# EAGLE library part B9P-VH (library con-jst)
VH Connector - 0.156"
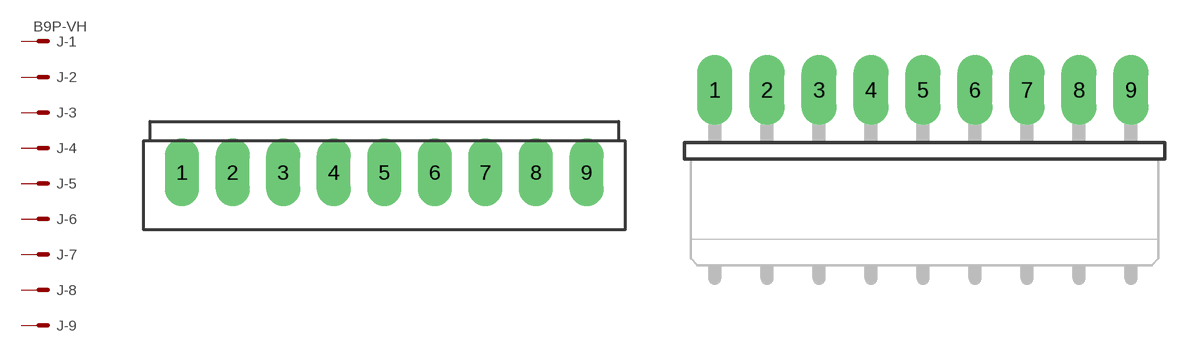
[diagram p44: symbol with the pads of B9P; footprints B9P, B9PS]

Designator prefix J; gates -1=KV -2=K -3=K -4=K -5=K -6=K -7=K -8=K -9=K

## B9P-VH  [B9P]
1  -1:S  pas
2  -2:S  pas
3  -3:S  pas
4  -4:S  pas
5  -5:S  pas
6  -6:S  pas
7  -7:S  pas
8  -8:S  pas
9  -9:S  pas

## B9P-VHS  [B9PS]
Pads as for B9P

## Footprint B9P (pad centres in mm)
VH Series - 0.156" Pitch
drill 1.778 long: 1 -15.85,0; 2 -11.887,0; 3 -7.925,0; 4 -3.962,0; 5 0,0; 6 3.962,0; 7 7.925,0; 8 11.887,0; 9 15.85,0

## Footprint B9PS (pad centres in mm)
VH Series - 0.156" Pitch - right angle
drill 1.778 long: 1 -15.85,0; 2 -11.887,0; 3 -7.925,0; 4 -3.962,0; 5 0,0; 6 3.962,0; 7 7.925,0; 8 11.887,0; 9 15.85,0